# Altium footprint library TiltLib.PcbLib: 7 footprints
Each footprint in its own frame and in the unit in brackets; x right, y up, seen from the top. Pads: shape width x height; smd on the part's side, far side on the other; paste and mask are expansions set on the pad; w line width, h text height; cw(c..) or ccw(c..) is an arc to the next point about the centre after c.
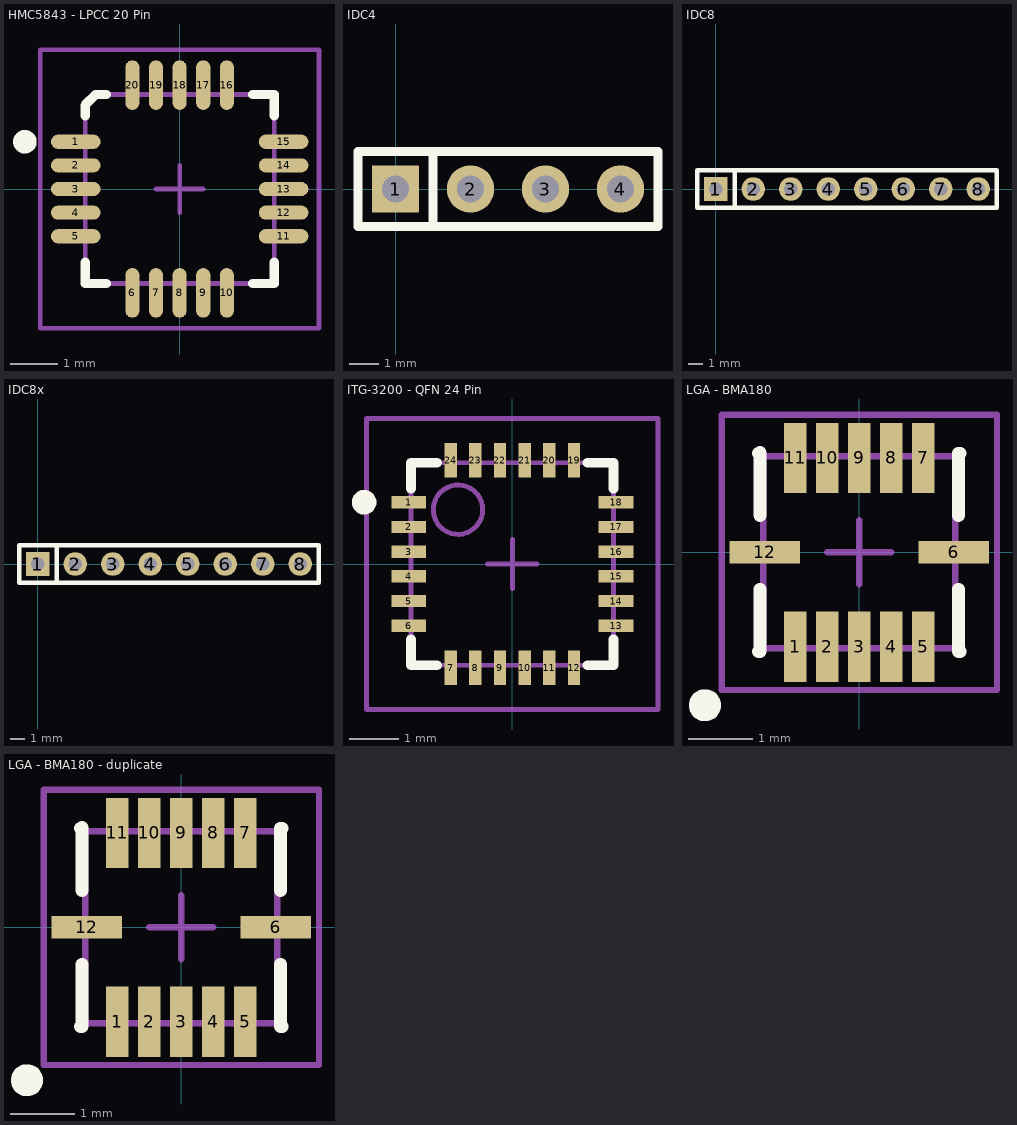
[diagram p0: the footprints below, top view; thin cyan lines are the x and y axes]

## HMC5843 - LPCC 20 Pin [mm] "HMC5843 - LPCC 20 Pin"
height 1.46
pads (20):
  oval 1.05x0.3 smd: 1(-2.2,1) 2(-2.2,0.5) 3(-2.2,0) 4(-2.2,-0.5) 5(-2.2,-1) 11(2.2,-1) 12(2.2,-0.5) 13(2.2,0) 14(2.2,0.5) 15(2.2,1)
  oval 0.3x1.05 smd: 6(-1,-2.2) 7(-0.5,-2.2) 8(0,-2.2) 9(0.5,-2.2) 10(1,-2.2) 16(1,2.2) 17(0.5,2.2) 18(0,2.2) 19(-0.5,2.2) 20(-1,2.2)
Top Overlay:
  circle w0.25: c-3.275,1 r0.125
  lines w0.2: -2,-1.55 -2,-2 -1.55,-2 ; -2,1.55 -2,1.775 -1.775,2 -1.55,2 ; 1.55,-2 2,-2 2,-1.55 ; 1.55,2 2,2 2,1.55
Mechanical 13:
  lines w0.1: -2,-2 2,-2 2,2 -1.775,2 -2,1.775 -2,-2
Mechanical 15:
  lines w0.1: -0.5,0 0.5,0 ; 0,-0.5 0,0.5 ; -2.95,-2.95 2.95,-2.95 2.95,2.95 -2.95,2.95 -2.95,-2.95
3D body: height 1.46, standoff 0, extent -2,-2 2,2

## IDC4 [mm]
pads (4):
  rect 1.6x1.6 hole 0.9: 1(0,0)
  round 1.6 hole 0.9: 2(2.54,0) 3(5.08,0) 4(7.62,0)
Top Overlay:
  lines w0.305: 1.27,-1.27 1.27,1.27 ; -1.27,-1.27 8.89,-1.27 8.89,1.27 -1.27,1.27 -1.27,-1.27

## IDC8 [mm]
pads (8):
  rect 1.6x1.6 hole 0.9: 1(0,0)
  round 1.6 hole 0.9: 2(2.54,0) 3(5.08,0) 4(7.62,0) 5(10.16,0) 6(12.7,0) 7(15.24,0) 8(17.78,0)
Top Overlay:
  lines w0.305: 1.27,-1.27 1.27,1.27 ; -1.27,-1.27 19.05,-1.27 19.05,1.27 -1.27,1.27 -1.27,-1.27

## IDC8x [mm]
pads (8):
  rect 1.6x1.6 hole 0.9: 1(0,0)
  round 1.6 hole 0.9: 2(2.54,0) 3(5.08,0) 4(7.62,0) 5(10.16,0) 6(12.7,0) 7(15.24,0) 8(17.78,0)
Top Overlay:
  lines w0.305: 1.27,-1.27 1.27,1.27 ; -1.27,-1.27 -1.27,1.27 19.05,1.27 19.05,-1.27 -1.27,-1.27

## ITG-3200 - QFN 24 Pin [mm] "QFN, 24-Leads, Body 4.1x4.1mm (max), Pitch 0.50mm, IPC Low Density"
height 0.95
pads (24):
  rect 0.7x0.25 smd: 1(-2.1,1.25) 2(-2.1,0.75) 3(-2.1,0.25) 4(-2.1,-0.25) 5(-2.1,-0.75) 6(-2.1,-1.25) 13(2.1,-1.25) 14(2.1,-0.75) 15(2.1,-0.25) 16(2.1,0.25) 17(2.1,0.75) 18(2.1,1.25)
  rect 0.25x0.7 smd: 7(-1.25,-2.1) 8(-0.75,-2.1) 9(-0.25,-2.1) 10(0.25,-2.1) 11(0.75,-2.1) 12(1.25,-2.1) 19(1.25,2.1) 20(0.75,2.1) 21(0.25,2.1) 22(-0.25,2.1) 23(-0.75,2.1) 24(-1.25,2.1)
Top Overlay:
  circle w0.25: c-3,1.25 r0.125
  lines w0.2: -2.05,-1.525 -2.05,-2.05 -1.525,-2.05 ; -2.05,1.525 -2.05,2.05 -1.525,2.05 ; 1.525,-2.05 2.05,-2.05 2.05,-1.525 ; 1.525,2.05 2.05,2.05 2.05,1.525
Mechanical 13:
  circle w0.1: c-1.1,1.1 r0.5
  lines w0.1: -2.05,-2.05 -2.05,2.05 2.05,2.05 2.05,-2.05 -2.05,-2.05
Mechanical 15:
  lines w0.1: -0.5,0 0.5,0 ; 0,-0.5 0,0.5 ; -2.95,-2.95 -2.95,2.95 2.95,2.95 2.95,-2.95 -2.95,-2.95
3D body: height 0.95, standoff 0, extent -2.05,-2.05 2.05,2.05

## LGA - BMA180 [mm] "LCC, 12-Pins, Body 3.1x3.1mm (max), Pitch 0.50mm, IPC High Density"
height 1
pads (12):
  rect 0.35x1.1 smd: 1(-1,-1.475) 2(-0.5,-1.475) 3(0,-1.475) 4(0.5,-1.475) 5(1,-1.475) 7(1,1.475) 8(0.5,1.475) 9(0,1.475) 10(-0.5,1.475) 11(-1,1.475)
  rect 1.1x0.35 smd: 6(1.475,0) 12(-1.475,0)
Top Overlay:
  circle w0.25: c-2.411,-2.388 r0.125
  lines w0.2: -1.575,-1.55 -1.55,-1.55 -1.55,-0.575 ; -1.575,1.55 -1.563,1.55 -1.55,1.563 -1.55,0.575 ; 1.55,-0.575 1.55,-1.55 1.575,-1.55 ; 1.55,0.575 1.55,1.55 1.575,1.55
Mechanical 13:
  lines w0.1: -1.513,1.5 1.5,1.5 1.5,-1.5 -1.5,-1.5 -1.5,1.513 -1.513,1.5
Mechanical 15:
  lines w0.1: -0.5,0 0.5,0 ; 0,-0.5 0,0.5 ; -2.15,-2.15 -2.15,2.15 2.15,2.15 2.15,-2.15 -2.15,-2.15
3D body: height 1, standoff 0, extent -1.513,-1.5 1.5,1.513

## LGA - BMA180 - duplicate [mm] "LCC, 12-Pins, Body 3.1x3.1mm (max), Pitch 0.50mm, IPC High Density"
height 1
pads (12):
  rect 0.35x1.1 smd: 1(-1,-1.475) 2(-0.5,-1.475) 3(0,-1.475) 4(0.5,-1.475) 5(1,-1.475) 7(1,1.475) 8(0.5,1.475) 9(0,1.475) 10(-0.5,1.475) 11(-1,1.475)
  rect 1.1x0.35 smd: 6(1.475,0) 12(-1.475,0)
Top Overlay:
  circle w0.25: c-2.411,-2.388 r0.125
  lines w0.2: -1.575,-1.55 -1.55,-1.55 -1.55,-0.575 ; -1.575,1.55 -1.563,1.55 -1.55,1.563 -1.55,0.575 ; 1.55,-0.575 1.55,-1.55 1.575,-1.55 ; 1.55,0.575 1.55,1.55 1.575,1.55
Mechanical 13:
  lines w0.1: -1.513,1.5 -1.5,1.513 -1.5,-1.5 1.5,-1.5 1.5,1.5 -1.513,1.5
Mechanical 15:
  lines w0.1: -0.5,0 0.5,0 ; 0,-0.5 0,0.5 ; -2.15,-2.15 2.15,-2.15 2.15,2.15 -2.15,2.15 -2.15,-2.15
3D body: height 1, standoff 0, extent -1.513,-1.5 1.5,1.513